# Altium schematic symbol library kmilo17pet-Maxim_Sensors.SchLib: 1172 symbols (part 42 of 61)
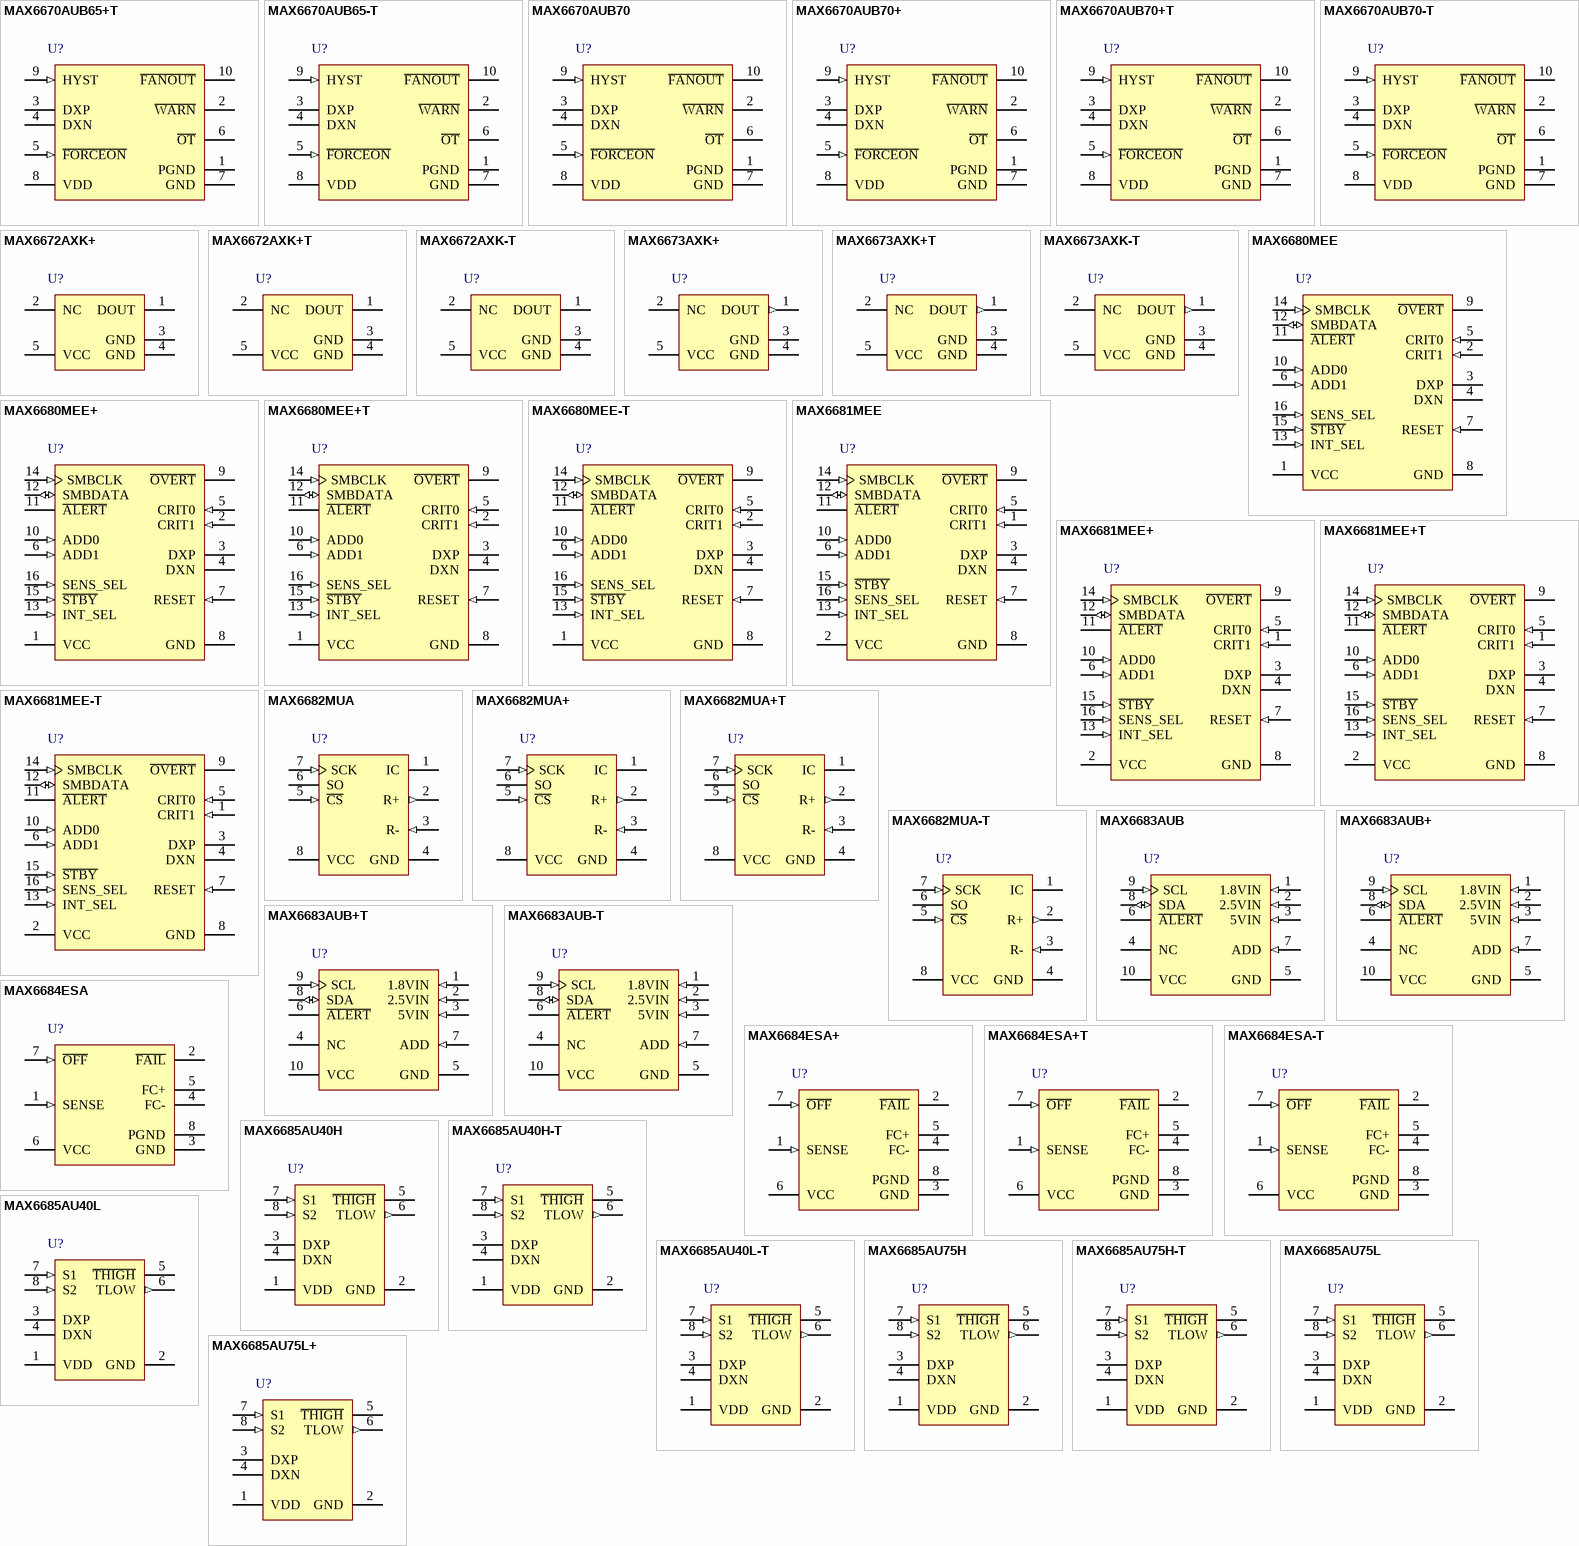
[diagram p74: symbols MAX6670AUB65+T to MAX6685AU75L+]

## MAX6683AUB-T
designator U?
Low Voltage Temperature Sensor and System Monitor, 11 Bits Temperature Resolution, -40 to 125 degC, 10-Pin SOP (U10-2), Tape and Reel; Generic Part Number: MAX6683; PartNumber: MAX6683AUB-T; Alarm Output: Alert; Functions: Voltage Monitor; Interface: 2-Wire/I2C/SMBus; Multi Droppable: Yes; Parasite Pwr.: No; DatasheetVersion: Rev. 1; PackageVersion: Rev. L, 07/2008; PackageReference: U10-2; PackageDescription: 10-Pin Micro-MAX, Thin Shrink Small-Outline (U10-2), Body 3 x 3 mm, Pitch 0.5 mm; Supplier 1: Mouser; Supplier Part Number 1: N/A; Packing: Tape and Reel; Mounting Technology: Surface Mount; Code_JEDEC: MO-187; ComponentLink1Description: Manufacturer URL; ComponentLink1URL: http://www.maximintegrated.com/; ComponentLink2Description: Datasheet; ComponentLink2URL: http://datasheets.maximintegrated.com/en/ds/MAX6683.pdf; ComponentLink3Description: Package Specification; ComponentLink3URL: http://pdfserv.maximintegrated.com/package_dwgs/21-0061.PDF
footprint MAXM-U10-2_N (SOP, 10-Leads, Body 3x3mm, Pitch 0.5mm, IPC Medium Density)
footprint MAXM-U10-2_L (SOP, 10-Leads, Body 3x3mm, Pitch 0.5mm, IPC High Density)
footprint MAXM-U10-2_M (SOP, 10-Leads, Body 3x3mm, Pitch 0.5mm, IPC Low Density)
pins: 1 1.8VIN (in) "Analog Input. Monitors 1.8V nominal supply.", 2 2.5VIN (in) "Analog Input. Monitors 2.5V nominal supply.", 3 5VIN (in) "Analog Input. Monitors 5V nominal supply.", 4 NC "No Connect. Not internally connected. Connect to GND to improve thermal conductivity.", 5 GND (power) "Ground", 6 ~{ALERT} (oc) "SMBus Alert (Interrupt) Output, Open Drain. Alerts the master that a temperature or voltage limit has been violated.", 7 ADD (in) "SMBus/I2C-Compatible Address Select Input. ADD is sampled at the beginning of each SMBus/I2C transaction, and the 2LSBs of the Slave Address register are detemined by ADD’s connection to GND, SDA, SCL, or VCC.", 8 SDA (io) "SMBus/I2C-Compatible Serial Data Interface", 9 SCL (in) "SMBus/I2C-Compatible Clock Input", 10 VCC (power) "Supply Voltage Input, +2.7V to +5.5V. Also serves as a voltage monitor input. Bypass VCC to GND with a 0.1uF capacitor."

## MAX6684ESA
designator U?
Fan Failure Detector with Integrated Power Switch, -40 to 85 degC, 8-Pin SOIC (S8-4); Generic Part Number: MAX6684; PartNumber: MAX6684ESA; Fan Cntrl.: Linear; Interface: Logic; DatasheetVersion: Rev. 0; PackageVersion: Rev. D, 10/2012; PackageReference: S8-4; PackageDescription: 8-Pin Small-Outline IC, Narrow, Body 3.9 x 4.9 mm, Pitch 1.27 mm; Supplier 1: Mouser; Supplier Part Number 1: N/A; Fan Controller Functions: Fan Failure Detector; Mounting Technology: Surface Mount; Code_JEDEC: MS-012; ComponentLink1Description: Manufacturer URL; ComponentLink1URL: http://www.maximintegrated.com/; ComponentLink2Description: Datasheet; ComponentLink2URL: http://datasheets.maximintegrated.com/en/ds/MAX6684.pdf; ComponentLink3Description: Package Specification; ComponentLink3URL: http://pdfserv.maximintegrated.com/package_dwgs/21-0041.PDF
footprint MAXM-S8-4_N (SOIC, 8-Leads, Body 4.9x3.9mm, Pitch 1.27mm, IPC Medium Density)
footprint MAXM-S8-4_L (SOIC, 8-Leads, Body 4.9x3.9mm, Pitch 1.27mm, IPC High Density)
footprint MAXM-S8-4_M (SOIC, 8-Leads, Body 4.9x3.9mm, Pitch 1.27mm, IPC Low Density)
pins: 1 SENSE (in) "Positive Current-Sensing Terminal. Connect SENSE to low side of fan.", 2 ~{FAIL} (oc) "Active-Low, Open-Drain Fan-Failure Output", 3 GND (power) "Ground", 4 FC- "Connect to 0.1uF capacitor for most locked-rotor detection applications. To detect minimum speed,select CF according to Minimum Speed and Locked-Rotor Detection.", 5 FC+ "Connect to 0.1uF capacitor for most locked-rotor detection applications. To detect minimum speed,select CF according to Minimum Speed and Locked-Rotor Detection.", 6 VCC (power) "Supply Voltage Input. Bypass VCC to GND with a 1uF capacitor.", 7 ~{OFF} (in) "Active- Low Fan- Control Input. Drive O\F\F\ high or leave floating to turn fan on. Drive O\F\F\ low to turn fan off.", 8 PGND (power) "Power Ground. Connect to GND."

## MAX6684ESA+
designator U?
Fan Failure Detector with Integrated Power Switch, -40 to 85 degC, 8-Pin SOIC (S8+4), Pb-Free; Generic Part Number: MAX6684; PartNumber: MAX6684ESA+; Fan Cntrl.: Linear; Interface: Logic; DatasheetVersion: Rev. 0; PackageVersion: Rev. D, 10/2012; PackageReference: S8+4; PackageDescription: 8-Pin Small-Outline IC, Narrow, Body 3.9 x 4.9 mm, Pitch 1.27 mm; Supplier 1: Digi-Key; Supplier Part Number 1: MAX6684ESA+-ND; Supplier 2: Mouser; Supplier Part Number 2: 700-MAX6684ESA; Fan Controller Functions: Fan Failure Detector; Mounting Technology: Surface Mount; Code_JEDEC: MS-012; ComponentLink1Description: Manufacturer URL; ComponentLink1URL: http://www.maximintegrated.com/; ComponentLink2Description: Datasheet; ComponentLink2URL: http://datasheets.maximintegrated.com/en/ds/MAX6684.pdf; ComponentLink3Description: Package Specification; ComponentLink3URL: http://pdfserv.maximintegrated.com/package_dwgs/21-0041.PDF
footprint MAXM-S8+4_N (SOIC, 8-Leads, Body 4.9x3.9mm, Pitch 1.27mm, IPC Medium Density)
footprint MAXM-S8+4_L (SOIC, 8-Leads, Body 4.9x3.9mm, Pitch 1.27mm, IPC High Density)
footprint MAXM-S8+4_M (SOIC, 8-Leads, Body 4.9x3.9mm, Pitch 1.27mm, IPC Low Density)
pins: 1 SENSE (in) "Positive Current-Sensing Terminal. Connect SENSE to low side of fan.", 2 ~{FAIL} (oc) "Active-Low, Open-Drain Fan-Failure Output", 3 GND (power) "Ground", 4 FC- "Connect to 0.1uF capacitor for most locked-rotor detection applications. To detect minimum speed,select CF according to Minimum Speed and Locked-Rotor Detection.", 5 FC+ "Connect to 0.1uF capacitor for most locked-rotor detection applications. To detect minimum speed,select CF according to Minimum Speed and Locked-Rotor Detection.", 6 VCC (power) "Supply Voltage Input. Bypass VCC to GND with a 1uF capacitor.", 7 ~{OFF} (in) "Active- Low Fan- Control Input. Drive O\F\F\ high or leave floating to turn fan on. Drive O\F\F\ low to turn fan off.", 8 PGND (power) "Power Ground. Connect to GND."

## MAX6684ESA+T
designator U?
Fan Failure Detector with Integrated Power Switch, -40 to 85 degC, 8-Pin SOIC (S8+4), Pb-Free, Tape and Reel; Generic Part Number: MAX6684; PartNumber: MAX6684ESA+T; Fan Cntrl.: Linear; Interface: Logic; DatasheetVersion: Rev. 0; PackageVersion: Rev. D, 10/2012; PackageReference: S8+4; PackageDescription: 8-Pin Small-Outline IC, Narrow, Body 3.9 x 4.9 mm, Pitch 1.27 mm; Supplier 1: Digi-Key; Supplier Part Number 1: MAX6684ESA+TTR-ND; Supplier 2: Digi-Key; Supplier Part Number 2: MAX6684ESA+TCT-ND; Supplier 3: Digi-Key; Supplier Part Number 3: MAX6684ESA+TDKR-ND; Supplier 4: Mouser; Supplier Part Number 4: 700-MAX6684ESAT; Fan Controller Functions: Fan Failure Detector; Packing: Tape and Reel; Mounting Technology: Surface Mount; Code_JEDEC: MS-012; ComponentLink1Description: Manufacturer URL; ComponentLink1URL: http://www.maximintegrated.com/; ComponentLink2Description: Datasheet; ComponentLink2URL: http://datasheets.maximintegrated.com/en/ds/MAX6684.pdf; ComponentLink3Description: Package Specification; ComponentLink3URL: http://pdfserv.maximintegrated.com/package_dwgs/21-0041.PDF
footprint MAXM-S8+4_N (SOIC, 8-Leads, Body 4.9x3.9mm, Pitch 1.27mm, IPC Medium Density)
footprint MAXM-S8+4_L (SOIC, 8-Leads, Body 4.9x3.9mm, Pitch 1.27mm, IPC High Density)
footprint MAXM-S8+4_M (SOIC, 8-Leads, Body 4.9x3.9mm, Pitch 1.27mm, IPC Low Density)
pins: 1 SENSE (in) "Positive Current-Sensing Terminal. Connect SENSE to low side of fan.", 2 ~{FAIL} (oc) "Active-Low, Open-Drain Fan-Failure Output", 3 GND (power) "Ground", 4 FC- "Connect to 0.1uF capacitor for most locked-rotor detection applications. To detect minimum speed,select CF according to Minimum Speed and Locked-Rotor Detection.", 5 FC+ "Connect to 0.1uF capacitor for most locked-rotor detection applications. To detect minimum speed,select CF according to Minimum Speed and Locked-Rotor Detection.", 6 VCC (power) "Supply Voltage Input. Bypass VCC to GND with a 1uF capacitor.", 7 ~{OFF} (in) "Active- Low Fan- Control Input. Drive O\F\F\ high or leave floating to turn fan on. Drive O\F\F\ low to turn fan off.", 8 PGND (power) "Power Ground. Connect to GND."

## MAX6684ESA-T
designator U?
Fan Failure Detector with Integrated Power Switch, -40 to 85 degC, 8-Pin SOIC (S8-4), Tape and Reel; Generic Part Number: MAX6684; PartNumber: MAX6684ESA-T; Fan Cntrl.: Linear; Interface: Logic; DatasheetVersion: Rev. 0; PackageVersion: Rev. D, 10/2012; PackageReference: S8-4; PackageDescription: 8-Pin Small-Outline IC, Narrow, Body 3.9 x 4.9 mm, Pitch 1.27 mm; Supplier 1: Mouser; Supplier Part Number 1: N/A; Fan Controller Functions: Fan Failure Detector; Packing: Tape and Reel; Mounting Technology: Surface Mount; Code_JEDEC: MS-012; ComponentLink1Description: Manufacturer URL; ComponentLink1URL: http://www.maximintegrated.com/; ComponentLink2Description: Datasheet; ComponentLink2URL: http://datasheets.maximintegrated.com/en/ds/MAX6684.pdf; ComponentLink3Description: Package Specification; ComponentLink3URL: http://pdfserv.maximintegrated.com/package_dwgs/21-0041.PDF
footprint MAXM-S8-4_N (SOIC, 8-Leads, Body 4.9x3.9mm, Pitch 1.27mm, IPC Medium Density)
footprint MAXM-S8-4_L (SOIC, 8-Leads, Body 4.9x3.9mm, Pitch 1.27mm, IPC High Density)
footprint MAXM-S8-4_M (SOIC, 8-Leads, Body 4.9x3.9mm, Pitch 1.27mm, IPC Low Density)
pins: 1 SENSE (in) "Positive Current-Sensing Terminal. Connect SENSE to low side of fan.", 2 ~{FAIL} (oc) "Active-Low, Open-Drain Fan-Failure Output", 3 GND (power) "Ground", 4 FC- "Connect to 0.1uF capacitor for most locked-rotor detection applications. To detect minimum speed,select CF according to Minimum Speed and Locked-Rotor Detection.", 5 FC+ "Connect to 0.1uF capacitor for most locked-rotor detection applications. To detect minimum speed,select CF according to Minimum Speed and Locked-Rotor Detection.", 6 VCC (power) "Supply Voltage Input. Bypass VCC to GND with a 1uF capacitor.", 7 ~{OFF} (in) "Active- Low Fan- Control Input. Drive O\F\F\ high or leave floating to turn fan on. Drive O\F\F\ low to turn fan off.", 8 PGND (power) "Power Ground. Connect to GND."

## MAX6685AU40H
designator U?
Dual-Output Remote-Junction Temperature Switch, -40 to 125 degC, 8-Pin SOP (U8-1); Generic Part Number: MAX6685; PartNumber: MAX6685AU40H; Functions: Dual Output Temperature Switch; Interface: Logic; DatasheetVersion: Rev. 2; PackageVersion: Rev. L, 08/2009; PackageReference: U8-1; PackageDescription: 8-Pin Micro-MAX, Thin Shrink Small-Outline (U8-1), Body 3 x 3 mm, Pitch 0.65mm; Supplier 1: Mouser; Supplier Part Number 1: N/A; Mounting Technology: Surface Mount; Code_JEDEC: MO-187; ComponentLink1Description: Manufacturer URL; ComponentLink1URL: http://www.maximintegrated.com/; ComponentLink2Description: Datasheet; ComponentLink2URL: http://datasheets.maximintegrated.com/en/ds/MAX6685; ComponentLink3Description: Package Specification; ComponentLink3URL: http://pdfserv.maximintegrated.com/package_dwgs/21-0036.PDF
footprint MAXM-U8-1_N (SOP, 8-Leads, Body 3x3mm, Pitch 0.65mm, IPC Medium Density)
footprint MAXM-U8-1_L (SOP, 8-Leads, Body 3x3mm, Pitch 0.65mm, IPC High Density)
footprint MAXM-U8-1_M (SOP, 8-Leads, Body 3x3mm, Pitch 0.65mm, IPC Low Density)
pins: 1 VDD (power) "Power-Supply Input. Bypass to GND with a 0.1uF capacitor.", 2 GND (power) "Ground", 3 DXP "This pin connects to the positive (anode) terminal of the external P-N sense junction. It sources current into the external junction. A 2200pF capacitor should be connected across DXP and DXN.", 4 DXN "This pin connects to the negative (cathode) terminal of the external P-N sense junction. It sinks current from the external junction. A 2200pF capacitor should be connected across DXP and DXN. DXN must be connected to the (See Datasheet)", 5 ~{THIGH} (oc) "Open-Drain, Active-Low Output. T\H\I\G\H\ goes low when the temperature exceeds the factoryprogrammed upper temperature threshold, either +120degreesC or +125degreesC. Connect a pullup resistor (typically 10k ohm) between (See Datasheet)", 6 TLOW (out) "CMOS Push-Pull, Active-High Output. TLOW goes HIGH when the temperature exceeds the pinprogrammed lower temperature threshold.", 7 S1 (in) "Threshold Select Input. Used in conjunction with S2 to set the lower threshold for TLOW (Table 1). It can be connected to VDD, GND, or left floating.", 8 S2 (in) "Threshold Select Input. Used in conjunction with S1 to set the lower threshold for TLOW (Table 1). It can be connected to VDD, GND, or left floating."

## MAX6685AU40H-T
designator U?
Dual-Output Remote-Junction Temperature Switch, -40 to 125 degC, 8-Pin SOP (U8-1), Tape and Reel; Generic Part Number: MAX6685; PartNumber: MAX6685AU40H-T; Functions: Dual Output Temperature Switch; Interface: Logic; DatasheetVersion: Rev. 2; PackageVersion: Rev. L, 08/2009; PackageReference: U8-1; PackageDescription: 8-Pin Micro-MAX, Thin Shrink Small-Outline (U8-1), Body 3 x 3 mm, Pitch 0.65mm; Supplier 1: Mouser; Supplier Part Number 1: N/A; Packing: Tape and Reel; Mounting Technology: Surface Mount; Code_JEDEC: MO-187; ComponentLink1Description: Manufacturer URL; ComponentLink1URL: http://www.maximintegrated.com/; ComponentLink2Description: Datasheet; ComponentLink2URL: http://datasheets.maximintegrated.com/en/ds/MAX6685; ComponentLink3Description: Package Specification; ComponentLink3URL: http://pdfserv.maximintegrated.com/package_dwgs/21-0036.PDF
footprint MAXM-U8-1_N (SOP, 8-Leads, Body 3x3mm, Pitch 0.65mm, IPC Medium Density)
footprint MAXM-U8-1_L (SOP, 8-Leads, Body 3x3mm, Pitch 0.65mm, IPC High Density)
footprint MAXM-U8-1_M (SOP, 8-Leads, Body 3x3mm, Pitch 0.65mm, IPC Low Density)
pins: 1 VDD (power) "Power-Supply Input. Bypass to GND with a 0.1uF capacitor.", 2 GND (power) "Ground", 3 DXP "This pin connects to the positive (anode) terminal of the external P-N sense junction. It sources current into the external junction. A 2200pF capacitor should be connected across DXP and DXN.", 4 DXN "This pin connects to the negative (cathode) terminal of the external P-N sense junction. It sinks current from the external junction. A 2200pF capacitor should be connected across DXP and DXN. DXN must be connected to the (See Datasheet)", 5 ~{THIGH} (oc) "Open-Drain, Active-Low Output. T\H\I\G\H\ goes low when the temperature exceeds the factoryprogrammed upper temperature threshold, either +120degreesC or +125degreesC. Connect a pullup resistor (typically 10k ohm) between (See Datasheet)", 6 TLOW (out) "CMOS Push-Pull, Active-High Output. TLOW goes HIGH when the temperature exceeds the pinprogrammed lower temperature threshold.", 7 S1 (in) "Threshold Select Input. Used in conjunction with S2 to set the lower threshold for TLOW (Table 1). It can be connected to VDD, GND, or left floating.", 8 S2 (in) "Threshold Select Input. Used in conjunction with S1 to set the lower threshold for TLOW (Table 1). It can be connected to VDD, GND, or left floating."

## MAX6685AU40L
designator U?
Dual-Output Remote-Junction Temperature Switch, -40 to 125 degC, 8-Pin SOP (U8-1); Generic Part Number: MAX6685; PartNumber: MAX6685AU40L; Functions: Dual Output Temperature Switch; Interface: Logic; DatasheetVersion: Rev. 2; PackageVersion: Rev. L, 08/2009; PackageReference: U8-1; PackageDescription: 8-Pin Micro-MAX, Thin Shrink Small-Outline (U8-1), Body 3 x 3 mm, Pitch 0.65mm; Supplier 1: Mouser; Supplier Part Number 1: N/A; Mounting Technology: Surface Mount; Code_JEDEC: MO-187; ComponentLink1Description: Manufacturer URL; ComponentLink1URL: http://www.maximintegrated.com/; ComponentLink2Description: Datasheet; ComponentLink2URL: http://datasheets.maximintegrated.com/en/ds/MAX6685; ComponentLink3Description: Package Specification; ComponentLink3URL: http://pdfserv.maximintegrated.com/package_dwgs/21-0036.PDF
footprint MAXM-U8-1_N (SOP, 8-Leads, Body 3x3mm, Pitch 0.65mm, IPC Medium Density)
footprint MAXM-U8-1_L (SOP, 8-Leads, Body 3x3mm, Pitch 0.65mm, IPC High Density)
footprint MAXM-U8-1_M (SOP, 8-Leads, Body 3x3mm, Pitch 0.65mm, IPC Low Density)
pins: 1 VDD (power) "Power-Supply Input. Bypass to GND with a 0.1uF capacitor.", 2 GND (power) "Ground", 3 DXP "This pin connects to the positive (anode) terminal of the external P-N sense junction. It sources current into the external junction. A 2200pF capacitor should be connected across DXP and DXN.", 4 DXN "This pin connects to the negative (cathode) terminal of the external P-N sense junction. It sinks current from the external junction. A 2200pF capacitor should be connected across DXP and DXN. DXN must be connected to the (See Datasheet)", 5 ~{THIGH} (oc) "Open-Drain, Active-Low Output. T\H\I\G\H\ goes low when the temperature exceeds the factoryprogrammed upper temperature threshold, either +120degreesC or +125degreesC. Connect a pullup resistor (typically 10k ohm) between (See Datasheet)", 6 TLOW (out) "CMOS Push-Pull, Active-High Output. TLOW goes HIGH when the temperature exceeds the pinprogrammed lower temperature threshold.", 7 S1 (in) "Threshold Select Input. Used in conjunction with S2 to set the lower threshold for TLOW (Table 1). It can be connected to VDD, GND, or left floating.", 8 S2 (in) "Threshold Select Input. Used in conjunction with S1 to set the lower threshold for TLOW (Table 1). It can be connected to VDD, GND, or left floating."

## MAX6685AU40L-T
designator U?
Dual-Output Remote-Junction Temperature Switch, -40 to 125 degC, 8-Pin SOP (U8-1), Tape and Reel; Generic Part Number: MAX6685; PartNumber: MAX6685AU40L-T; Functions: Dual Output Temperature Switch; Interface: Logic; DatasheetVersion: Rev. 2; PackageVersion: Rev. L, 08/2009; PackageReference: U8-1; PackageDescription: 8-Pin Micro-MAX, Thin Shrink Small-Outline (U8-1), Body 3 x 3 mm, Pitch 0.65mm; Supplier 1: Mouser; Supplier Part Number 1: N/A; Packing: Tape and Reel; Mounting Technology: Surface Mount; Code_JEDEC: MO-187; ComponentLink1Description: Manufacturer URL; ComponentLink1URL: http://www.maximintegrated.com/; ComponentLink2Description: Datasheet; ComponentLink2URL: http://datasheets.maximintegrated.com/en/ds/MAX6685; ComponentLink3Description: Package Specification; ComponentLink3URL: http://pdfserv.maximintegrated.com/package_dwgs/21-0036.PDF
footprint MAXM-U8-1_N (SOP, 8-Leads, Body 3x3mm, Pitch 0.65mm, IPC Medium Density)
footprint MAXM-U8-1_L (SOP, 8-Leads, Body 3x3mm, Pitch 0.65mm, IPC High Density)
footprint MAXM-U8-1_M (SOP, 8-Leads, Body 3x3mm, Pitch 0.65mm, IPC Low Density)
pins: 1 VDD (power) "Power-Supply Input. Bypass to GND with a 0.1uF capacitor.", 2 GND (power) "Ground", 3 DXP "This pin connects to the positive (anode) terminal of the external P-N sense junction. It sources current into the external junction. A 2200pF capacitor should be connected across DXP and DXN.", 4 DXN "This pin connects to the negative (cathode) terminal of the external P-N sense junction. It sinks current from the external junction. A 2200pF capacitor should be connected across DXP and DXN. DXN must be connected to the (See Datasheet)", 5 ~{THIGH} (oc) "Open-Drain, Active-Low Output. T\H\I\G\H\ goes low when the temperature exceeds the factoryprogrammed upper temperature threshold, either +120degreesC or +125degreesC. Connect a pullup resistor (typically 10k ohm) between (See Datasheet)", 6 TLOW (out) "CMOS Push-Pull, Active-High Output. TLOW goes HIGH when the temperature exceeds the pinprogrammed lower temperature threshold.", 7 S1 (in) "Threshold Select Input. Used in conjunction with S2 to set the lower threshold for TLOW (Table 1). It can be connected to VDD, GND, or left floating.", 8 S2 (in) "Threshold Select Input. Used in conjunction with S1 to set the lower threshold for TLOW (Table 1). It can be connected to VDD, GND, or left floating."

## MAX6685AU75H
designator U?
Dual-Output Remote-Junction Temperature Switch, -40 to 125 degC, 8-Pin SOP (U8-1); Generic Part Number: MAX6685; PartNumber: MAX6685AU75H; Functions: Dual Output Temperature Switch; Interface: Logic; DatasheetVersion: Rev. 2; PackageVersion: Rev. L, 08/2009; PackageReference: U8-1; PackageDescription: 8-Pin Micro-MAX, Thin Shrink Small-Outline (U8-1), Body 3 x 3 mm, Pitch 0.65mm; Supplier 1: Mouser; Supplier Part Number 1: N/A; Mounting Technology: Surface Mount; Code_JEDEC: MO-187; ComponentLink1Description: Manufacturer URL; ComponentLink1URL: http://www.maximintegrated.com/; ComponentLink2Description: Datasheet; ComponentLink2URL: http://datasheets.maximintegrated.com/en/ds/MAX6685; ComponentLink3Description: Package Specification; ComponentLink3URL: http://pdfserv.maximintegrated.com/package_dwgs/21-0036.PDF
footprint MAXM-U8-1_N (SOP, 8-Leads, Body 3x3mm, Pitch 0.65mm, IPC Medium Density)
footprint MAXM-U8-1_L (SOP, 8-Leads, Body 3x3mm, Pitch 0.65mm, IPC High Density)
footprint MAXM-U8-1_M (SOP, 8-Leads, Body 3x3mm, Pitch 0.65mm, IPC Low Density)
pins: 1 VDD (power) "Power-Supply Input. Bypass to GND with a 0.1uF capacitor.", 2 GND (power) "Ground", 3 DXP "This pin connects to the positive (anode) terminal of the external P-N sense junction. It sources current into the external junction. A 2200pF capacitor should be connected across DXP and DXN.", 4 DXN "This pin connects to the negative (cathode) terminal of the external P-N sense junction. It sinks current from the external junction. A 2200pF capacitor should be connected across DXP and DXN. DXN must be connected to the (See Datasheet)", 5 ~{THIGH} (oc) "Open-Drain, Active-Low Output. T\H\I\G\H\ goes low when the temperature exceeds the factoryprogrammed upper temperature threshold, either +120degreesC or +125degreesC. Connect a pullup resistor (typically 10k ohm) between (See Datasheet)", 6 TLOW (out) "CMOS Push-Pull, Active-High Output. TLOW goes HIGH when the temperature exceeds the pinprogrammed lower temperature threshold.", 7 S1 (in) "Threshold Select Input. Used in conjunction with S2 to set the lower threshold for TLOW (Table 1). It can be connected to VDD, GND, or left floating.", 8 S2 (in) "Threshold Select Input. Used in conjunction with S1 to set the lower threshold for TLOW (Table 1). It can be connected to VDD, GND, or left floating."

## MAX6685AU75H-T
designator U?
Dual-Output Remote-Junction Temperature Switch, -40 to 125 degC, 8-Pin SOP (U8-1), Tape and Reel; Generic Part Number: MAX6685; PartNumber: MAX6685AU75H-T; Functions: Dual Output Temperature Switch; Interface: Logic; DatasheetVersion: Rev. 2; PackageVersion: Rev. L, 08/2009; PackageReference: U8-1; PackageDescription: 8-Pin Micro-MAX, Thin Shrink Small-Outline (U8-1), Body 3 x 3 mm, Pitch 0.65mm; Supplier 1: Mouser; Supplier Part Number 1: N/A; Packing: Tape and Reel; Mounting Technology: Surface Mount; Code_JEDEC: MO-187; ComponentLink1Description: Manufacturer URL; ComponentLink1URL: http://www.maximintegrated.com/; ComponentLink2Description: Datasheet; ComponentLink2URL: http://datasheets.maximintegrated.com/en/ds/MAX6685; ComponentLink3Description: Package Specification; ComponentLink3URL: http://pdfserv.maximintegrated.com/package_dwgs/21-0036.PDF
footprint MAXM-U8-1_N (SOP, 8-Leads, Body 3x3mm, Pitch 0.65mm, IPC Medium Density)
footprint MAXM-U8-1_L (SOP, 8-Leads, Body 3x3mm, Pitch 0.65mm, IPC High Density)
footprint MAXM-U8-1_M (SOP, 8-Leads, Body 3x3mm, Pitch 0.65mm, IPC Low Density)
pins: 1 VDD (power) "Power-Supply Input. Bypass to GND with a 0.1uF capacitor.", 2 GND (power) "Ground", 3 DXP "This pin connects to the positive (anode) terminal of the external P-N sense junction. It sources current into the external junction. A 2200pF capacitor should be connected across DXP and DXN.", 4 DXN "This pin connects to the negative (cathode) terminal of the external P-N sense junction. It sinks current from the external junction. A 2200pF capacitor should be connected across DXP and DXN. DXN must be connected to the (See Datasheet)", 5 ~{THIGH} (oc) "Open-Drain, Active-Low Output. T\H\I\G\H\ goes low when the temperature exceeds the factoryprogrammed upper temperature threshold, either +120degreesC or +125degreesC. Connect a pullup resistor (typically 10k ohm) between (See Datasheet)", 6 TLOW (out) "CMOS Push-Pull, Active-High Output. TLOW goes HIGH when the temperature exceeds the pinprogrammed lower temperature threshold.", 7 S1 (in) "Threshold Select Input. Used in conjunction with S2 to set the lower threshold for TLOW (Table 1). It can be connected to VDD, GND, or left floating.", 8 S2 (in) "Threshold Select Input. Used in conjunction with S1 to set the lower threshold for TLOW (Table 1). It can be connected to VDD, GND, or left floating."

## MAX6685AU75L
designator U?
Dual-Output Remote-Junction Temperature Switch, -40 to 125 degC, 8-Pin SOP (U8-1); Generic Part Number: MAX6685; PartNumber: MAX6685AU75L; Functions: Dual Output Temperature Switch; Interface: Logic; DatasheetVersion: Rev. 2; PackageVersion: Rev. L, 08/2009; PackageReference: U8-1; PackageDescription: 8-Pin Micro-MAX, Thin Shrink Small-Outline (U8-1), Body 3 x 3 mm, Pitch 0.65mm; Supplier 1: Mouser; Supplier Part Number 1: N/A; Mounting Technology: Surface Mount; Code_JEDEC: MO-187; ComponentLink1Description: Manufacturer URL; ComponentLink1URL: http://www.maximintegrated.com/; ComponentLink2Description: Datasheet; ComponentLink2URL: http://datasheets.maximintegrated.com/en/ds/MAX6685; ComponentLink3Description: Package Specification; ComponentLink3URL: http://pdfserv.maximintegrated.com/package_dwgs/21-0036.PDF
footprint MAXM-U8-1_N (SOP, 8-Leads, Body 3x3mm, Pitch 0.65mm, IPC Medium Density)
footprint MAXM-U8-1_L (SOP, 8-Leads, Body 3x3mm, Pitch 0.65mm, IPC High Density)
footprint MAXM-U8-1_M (SOP, 8-Leads, Body 3x3mm, Pitch 0.65mm, IPC Low Density)
pins: 1 VDD (power) "Power-Supply Input. Bypass to GND with a 0.1uF capacitor.", 2 GND (power) "Ground", 3 DXP "This pin connects to the positive (anode) terminal of the external P-N sense junction. It sources current into the external junction. A 2200pF capacitor should be connected across DXP and DXN.", 4 DXN "This pin connects to the negative (cathode) terminal of the external P-N sense junction. It sinks current from the external junction. A 2200pF capacitor should be connected across DXP and DXN. DXN must be connected to the (See Datasheet)", 5 ~{THIGH} (oc) "Open-Drain, Active-Low Output. T\H\I\G\H\ goes low when the temperature exceeds the factoryprogrammed upper temperature threshold, either +120degreesC or +125degreesC. Connect a pullup resistor (typically 10k ohm) between (See Datasheet)", 6 TLOW (out) "CMOS Push-Pull, Active-High Output. TLOW goes HIGH when the temperature exceeds the pinprogrammed lower temperature threshold.", 7 S1 (in) "Threshold Select Input. Used in conjunction with S2 to set the lower threshold for TLOW (Table 1). It can be connected to VDD, GND, or left floating.", 8 S2 (in) "Threshold Select Input. Used in conjunction with S1 to set the lower threshold for TLOW (Table 1). It can be connected to VDD, GND, or left floating."

## MAX6685AU75L+
designator U?
Dual-Output Remote-Junction Temperature Switch, -40 to 125 degC, 8-Pin SOP (U8+1), Pb-Free; Generic Part Number: MAX6685; PartNumber: MAX6685AU75L+; Functions: Dual Output Temperature Switch; Interface: Logic; DatasheetVersion: Rev. 2; PackageVersion: Rev. L, 08/2009; PackageReference: U8+1; PackageDescription: 8-Pin Micro-MAX, Thin Shrink Small-Outline (U8+1), Body 3 x 3 mm, Pitch 0.65 mm; Supplier 1: Digi-Key; Supplier Part Number 1: MAX6685AU75L+-ND; Supplier 2: Mouser; Supplier Part Number 2: 700-MAX6685AU75L+; Mounting Technology: Surface Mount; Code_JEDEC: MO-187; ComponentLink1Description: Manufacturer URL; ComponentLink1URL: http://www.maximintegrated.com/; ComponentLink2Description: Datasheet; ComponentLink2URL: http://datasheets.maximintegrated.com/en/ds/MAX6685; ComponentLink3Description: Package Specification; ComponentLink3URL: http://pdfserv.maximintegrated.com/package_dwgs/21-0036.PDF
footprint MAXM-U8+1_N (SOP, 8-Leads, Body 3x3mm, Pitch 0.65mm, IPC Medium Density)
footprint MAXM-U8+1_L (SOP, 8-Leads, Body 3x3mm, Pitch 0.65mm, IPC High Density)
footprint MAXM-U8+1_M (SOP, 8-Leads, Body 3x3mm, Pitch 0.65mm, IPC Low Density)
pins: 1 VDD (power) "Power-Supply Input. Bypass to GND with a 0.1uF capacitor.", 2 GND (power) "Ground", 3 DXP "This pin connects to the positive (anode) terminal of the external P-N sense junction. It sources current into the external junction. A 2200pF capacitor should be connected across DXP and DXN.", 4 DXN "This pin connects to the negative (cathode) terminal of the external P-N sense junction. It sinks current from the external junction. A 2200pF capacitor should be connected across DXP and DXN. DXN must be connected to the (See Datasheet)", 5 ~{THIGH} (oc) "Open-Drain, Active-Low Output. T\H\I\G\H\ goes low when the temperature exceeds the factoryprogrammed upper temperature threshold, either +120degreesC or +125degreesC. Connect a pullup resistor (typically 10k ohm) between (See Datasheet)", 6 TLOW (out) "CMOS Push-Pull, Active-High Output. TLOW goes HIGH when the temperature exceeds the pinprogrammed lower temperature threshold.", 7 S1 (in) "Threshold Select Input. Used in conjunction with S2 to set the lower threshold for TLOW (Table 1). It can be connected to VDD, GND, or left floating.", 8 S2 (in) "Threshold Select Input. Used in conjunction with S1 to set the lower threshold for TLOW (Table 1). It can be connected to VDD, GND, or left floating."

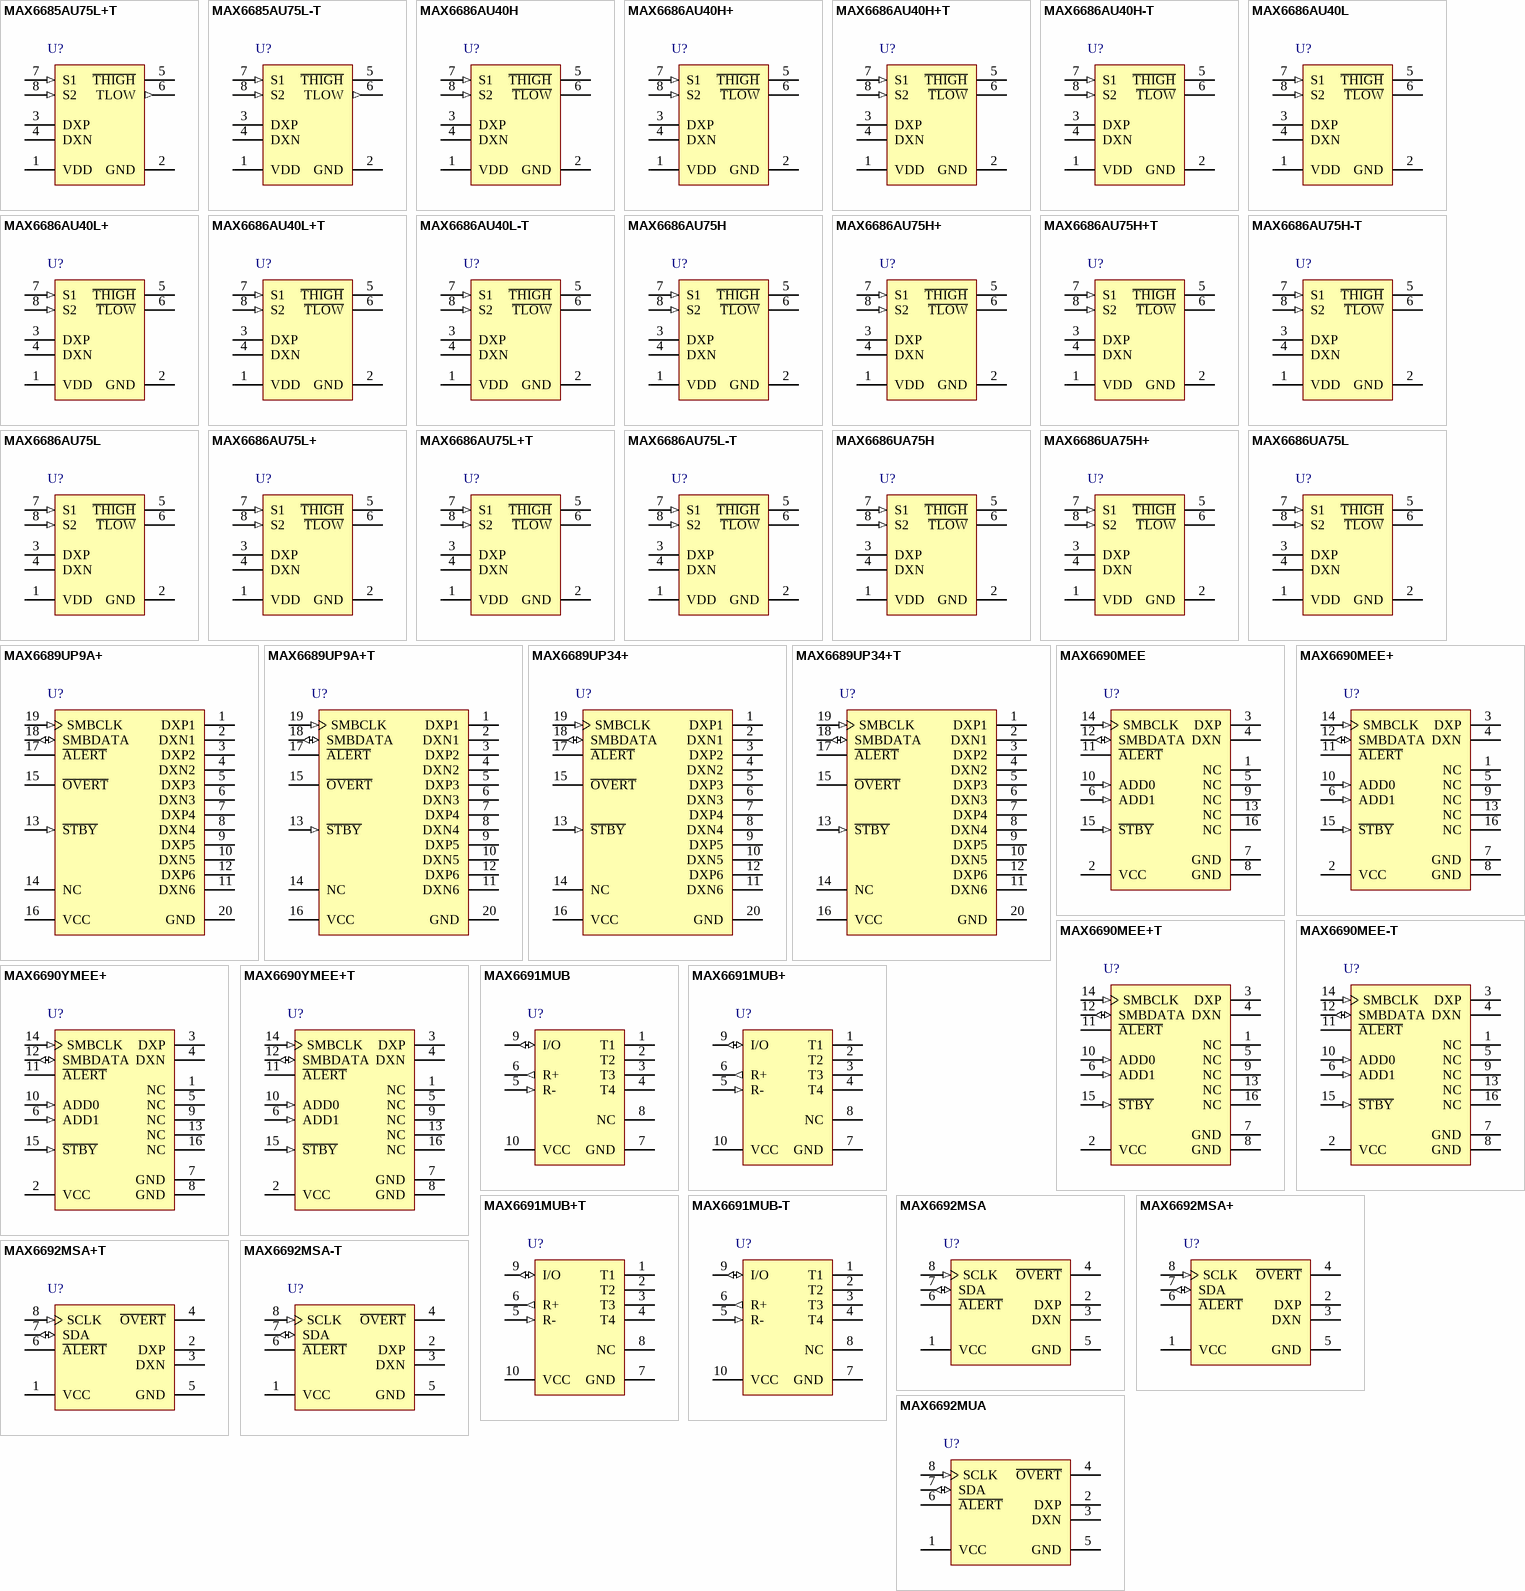
[diagram p24: symbols MAX6685AU75L+T to MAX6692MUA]

## MAX6685AU75L+T
designator U?
Dual-Output Remote-Junction Temperature Switch, -40 to 125 degC, 8-Pin SOP (U8+1), Pb-Free, Tape and Reel; Generic Part Number: MAX6685; PartNumber: MAX6685AU75L+T; Functions: Dual Output Temperature Switch; Interface: Logic; DatasheetVersion: Rev. 2; PackageVersion: Rev. L, 08/2009; PackageReference: U8+1; PackageDescription: 8-Pin Micro-MAX, Thin Shrink Small-Outline (U8+1), Body 3 x 3 mm, Pitch 0.65 mm; Supplier 1: Digi-Key; Supplier Part Number 1: MAX6685AU75L+T-ND; Supplier 2: Mouser; Supplier Part Number 2: 700-MAX6685AU75L+T; Packing: Tape and Reel; Mounting Technology: Surface Mount; Code_JEDEC: MO-187; ComponentLink1Description: Manufacturer URL; ComponentLink1URL: http://www.maximintegrated.com/; ComponentLink2Description: Datasheet; ComponentLink2URL: http://datasheets.maximintegrated.com/en/ds/MAX6685; ComponentLink3Description: Package Specification; ComponentLink3URL: http://pdfserv.maximintegrated.com/package_dwgs/21-0036.PDF
footprint MAXM-U8+1_N (SOP, 8-Leads, Body 3x3mm, Pitch 0.65mm, IPC Medium Density)
footprint MAXM-U8+1_L (SOP, 8-Leads, Body 3x3mm, Pitch 0.65mm, IPC High Density)
footprint MAXM-U8+1_M (SOP, 8-Leads, Body 3x3mm, Pitch 0.65mm, IPC Low Density)
pins: 1 VDD (power) "Power-Supply Input. Bypass to GND with a 0.1uF capacitor.", 2 GND (power) "Ground", 3 DXP "This pin connects to the positive (anode) terminal of the external P-N sense junction. It sources current into the external junction. A 2200pF capacitor should be connected across DXP and DXN.", 4 DXN "This pin connects to the negative (cathode) terminal of the external P-N sense junction. It sinks current from the external junction. A 2200pF capacitor should be connected across DXP and DXN. DXN must be connected to the (See Datasheet)", 5 ~{THIGH} (oc) "Open-Drain, Active-Low Output. T\H\I\G\H\ goes low when the temperature exceeds the factoryprogrammed upper temperature threshold, either +120degreesC or +125degreesC. Connect a pullup resistor (typically 10k ohm) between (See Datasheet)", 6 TLOW (out) "CMOS Push-Pull, Active-High Output. TLOW goes HIGH when the temperature exceeds the pinprogrammed lower temperature threshold.", 7 S1 (in) "Threshold Select Input. Used in conjunction with S2 to set the lower threshold for TLOW (Table 1). It can be connected to VDD, GND, or left floating.", 8 S2 (in) "Threshold Select Input. Used in conjunction with S1 to set the lower threshold for TLOW (Table 1). It can be connected to VDD, GND, or left floating."

## MAX6685AU75L-T
designator U?
Dual-Output Remote-Junction Temperature Switch, -40 to 125 degC, 8-Pin SOP (U8-1), Tape and Reel; Generic Part Number: MAX6685; PartNumber: MAX6685AU75L-T; Functions: Dual Output Temperature Switch; Interface: Logic; DatasheetVersion: Rev. 2; PackageVersion: Rev. L, 08/2009; PackageReference: U8-1; PackageDescription: 8-Pin Micro-MAX, Thin Shrink Small-Outline (U8-1), Body 3 x 3 mm, Pitch 0.65mm; Supplier 1: Mouser; Supplier Part Number 1: N/A; Packing: Tape and Reel; Mounting Technology: Surface Mount; Code_JEDEC: MO-187; ComponentLink1Description: Manufacturer URL; ComponentLink1URL: http://www.maximintegrated.com/; ComponentLink2Description: Datasheet; ComponentLink2URL: http://datasheets.maximintegrated.com/en/ds/MAX6685; ComponentLink3Description: Package Specification; ComponentLink3URL: http://pdfserv.maximintegrated.com/package_dwgs/21-0036.PDF
footprint MAXM-U8-1_N (SOP, 8-Leads, Body 3x3mm, Pitch 0.65mm, IPC Medium Density)
footprint MAXM-U8-1_L (SOP, 8-Leads, Body 3x3mm, Pitch 0.65mm, IPC High Density)
footprint MAXM-U8-1_M (SOP, 8-Leads, Body 3x3mm, Pitch 0.65mm, IPC Low Density)
pins: 1 VDD (power) "Power-Supply Input. Bypass to GND with a 0.1uF capacitor.", 2 GND (power) "Ground", 3 DXP "This pin connects to the positive (anode) terminal of the external P-N sense junction. It sources current into the external junction. A 2200pF capacitor should be connected across DXP and DXN.", 4 DXN "This pin connects to the negative (cathode) terminal of the external P-N sense junction. It sinks current from the external junction. A 2200pF capacitor should be connected across DXP and DXN. DXN must be connected to the (See Datasheet)", 5 ~{THIGH} (oc) "Open-Drain, Active-Low Output. T\H\I\G\H\ goes low when the temperature exceeds the factoryprogrammed upper temperature threshold, either +120degreesC or +125degreesC. Connect a pullup resistor (typically 10k ohm) between (See Datasheet)", 6 TLOW (out) "CMOS Push-Pull, Active-High Output. TLOW goes HIGH when the temperature exceeds the pinprogrammed lower temperature threshold.", 7 S1 (in) "Threshold Select Input. Used in conjunction with S2 to set the lower threshold for TLOW (Table 1). It can be connected to VDD, GND, or left floating.", 8 S2 (in) "Threshold Select Input. Used in conjunction with S1 to set the lower threshold for TLOW (Table 1). It can be connected to VDD, GND, or left floating."

## MAX6686AU40H
designator U?
Dual-Output Remote-Junction Temperature Switch, -40 to 125 degC, 8-Pin SOP (U8-1); Generic Part Number: MAX6686; PartNumber: MAX6686AU40H; Functions: Dual Output Temperature Switch; Interface: Logic; DatasheetVersion: Rev. 2; PackageVersion: Rev. L, 08/2009; PackageReference: U8-1; PackageDescription: 8-Pin Micro-MAX, Thin Shrink Small-Outline (U8-1), Body 3 x 3 mm, Pitch 0.65mm; Supplier 1: Mouser; Supplier Part Number 1: N/A; Mounting Technology: Surface Mount; Code_JEDEC: MO-187; ComponentLink1Description: Manufacturer URL; ComponentLink1URL: http://www.maximintegrated.com/; ComponentLink2Description: Datasheet; ComponentLink2URL: http://datasheets.maximintegrated.com/en/ds/MAX6686; ComponentLink3Description: Package Specification; ComponentLink3URL: http://pdfserv.maximintegrated.com/package_dwgs/21-0036.PDF
footprint MAXM-U8-1_N (SOP, 8-Leads, Body 3x3mm, Pitch 0.65mm, IPC Medium Density)
footprint MAXM-U8-1_L (SOP, 8-Leads, Body 3x3mm, Pitch 0.65mm, IPC High Density)
footprint MAXM-U8-1_M (SOP, 8-Leads, Body 3x3mm, Pitch 0.65mm, IPC Low Density)
pins: 1 VDD (power) "Power-Supply Input. Bypass to GND with a 0.1uF capacitor.", 2 GND (power) "Ground", 3 DXP "This pin connects to the positive (anode) terminal of the external P-N sense junction. It sources current into the external junction. A 2200pF capacitor should be connected across DXP and DXN.", 4 DXN "This pin connects to the negative (cathode) terminal of the external P-N sense junction. It sinks current from the external junction. A 2200pF capacitor should be connected across DXP and DXN. DXN must be connected to the (See Datasheet)", 5 ~{THIGH} (oc) "Open-Drain, Active-Low Output. T\H\I\G\H\ goes low when the temperature exceeds the factoryprogrammed upper temperature threshold, either +120degreesC or +125degreesC. Connect a pullup resistor (typically 10k ohm) between (See Datasheet)", 6 ~{TLOW} (oc) "Open-Drain, Active-Low Output. T\L\O\W\  goes LOW when the temperature exceeds the pinprogrammed lower temperature threshold. Connect a pullup resistor (typically 10k ohm) between T\L\O\W\ and a positive supply up to 5.5V", 7 S1 (in) "Threshold Select Input. Used in conjunction with S2 to set the lower threshold for TLOW (Table 1). It can be connected to VDD, GND, or left floating.", 8 S2 (in) "Threshold Select Input. Used in conjunction with S1 to set the lower threshold for TLOW (Table 1). It can be connected to VDD, GND, or left floating."

## MAX6686AU40H+
designator U?
Dual-Output Remote-Junction Temperature Switch, -40 to 125 degC, 8-Pin SOP (U8+1), Pb-Free; Generic Part Number: MAX6686; PartNumber: MAX6686AU40H+; Functions: Dual Output Temperature Switch; Interface: Logic; DatasheetVersion: Rev. 2; PackageVersion: Rev. L, 08/2009; PackageReference: U8+1; PackageDescription: 8-Pin Micro-MAX, Thin Shrink Small-Outline (U8+1), Body 3 x 3 mm, Pitch 0.65 mm; Supplier 1: Digi-Key; Supplier Part Number 1: MAX6686AU40H+-ND; Supplier 2: Mouser; Supplier Part Number 2: 700-MAX6686AU40H+; Mounting Technology: Surface Mount; Code_JEDEC: MO-187; ComponentLink1Description: Manufacturer URL; ComponentLink1URL: http://www.maximintegrated.com/; ComponentLink2Description: Datasheet; ComponentLink2URL: http://datasheets.maximintegrated.com/en/ds/MAX6686; ComponentLink3Description: Package Specification; ComponentLink3URL: http://pdfserv.maximintegrated.com/package_dwgs/21-0036.PDF
footprint MAXM-U8+1_N (SOP, 8-Leads, Body 3x3mm, Pitch 0.65mm, IPC Medium Density)
footprint MAXM-U8+1_L (SOP, 8-Leads, Body 3x3mm, Pitch 0.65mm, IPC High Density)
footprint MAXM-U8+1_M (SOP, 8-Leads, Body 3x3mm, Pitch 0.65mm, IPC Low Density)
pins: 1 VDD (power) "Power-Supply Input. Bypass to GND with a 0.1uF capacitor.", 2 GND (power) "Ground", 3 DXP "This pin connects to the positive (anode) terminal of the external P-N sense junction. It sources current into the external junction. A 2200pF capacitor should be connected across DXP and DXN.", 4 DXN "This pin connects to the negative (cathode) terminal of the external P-N sense junction. It sinks current from the external junction. A 2200pF capacitor should be connected across DXP and DXN. DXN must be connected to the (See Datasheet)", 5 ~{THIGH} (oc) "Open-Drain, Active-Low Output. T\H\I\G\H\ goes low when the temperature exceeds the factoryprogrammed upper temperature threshold, either +120degreesC or +125degreesC. Connect a pullup resistor (typically 10k ohm) between (See Datasheet)", 6 ~{TLOW} (oc) "Open-Drain, Active-Low Output. T\L\O\W\  goes LOW when the temperature exceeds the pinprogrammed lower temperature threshold. Connect a pullup resistor (typically 10k ohm) between T\L\O\W\ and a positive supply up to 5.5V", 7 S1 (in) "Threshold Select Input. Used in conjunction with S2 to set the lower threshold for TLOW (Table 1). It can be connected to VDD, GND, or left floating.", 8 S2 (in) "Threshold Select Input. Used in conjunction with S1 to set the lower threshold for TLOW (Table 1). It can be connected to VDD, GND, or left floating."

## MAX6686AU40H+T
designator U?
Dual-Output Remote-Junction Temperature Switch, -40 to 125 degC, 8-Pin SOP (U8+1), Pb-Free, Tape and Reel; Generic Part Number: MAX6686; PartNumber: MAX6686AU40H+T; Functions: Dual Output Temperature Switch; Interface: Logic; DatasheetVersion: Rev. 2; PackageVersion: Rev. L, 08/2009; PackageReference: U8+1; PackageDescription: 8-Pin Micro-MAX, Thin Shrink Small-Outline (U8+1), Body 3 x 3 mm, Pitch 0.65 mm; Supplier 1: Digi-Key; Supplier Part Number 1: MAX6686AU40H+T-ND; Supplier 2: Mouser; Supplier Part Number 2: 700-MAX6686AU40H+T; Packing: Tape and Reel; Mounting Technology: Surface Mount; Code_JEDEC: MO-187; ComponentLink1Description: Manufacturer URL; ComponentLink1URL: http://www.maximintegrated.com/; ComponentLink2Description: Datasheet; ComponentLink2URL: http://datasheets.maximintegrated.com/en/ds/MAX6686; ComponentLink3Description: Package Specification; ComponentLink3URL: http://pdfserv.maximintegrated.com/package_dwgs/21-0036.PDF
footprint MAXM-U8+1_N (SOP, 8-Leads, Body 3x3mm, Pitch 0.65mm, IPC Medium Density)
footprint MAXM-U8+1_L (SOP, 8-Leads, Body 3x3mm, Pitch 0.65mm, IPC High Density)
footprint MAXM-U8+1_M (SOP, 8-Leads, Body 3x3mm, Pitch 0.65mm, IPC Low Density)
pins: 1 VDD (power) "Power-Supply Input. Bypass to GND with a 0.1uF capacitor.", 2 GND (power) "Ground", 3 DXP "This pin connects to the positive (anode) terminal of the external P-N sense junction. It sources current into the external junction. A 2200pF capacitor should be connected across DXP and DXN.", 4 DXN "This pin connects to the negative (cathode) terminal of the external P-N sense junction. It sinks current from the external junction. A 2200pF capacitor should be connected across DXP and DXN. DXN must be connected to the (See Datasheet)", 5 ~{THIGH} (oc) "Open-Drain, Active-Low Output. T\H\I\G\H\ goes low when the temperature exceeds the factoryprogrammed upper temperature threshold, either +120degreesC or +125degreesC. Connect a pullup resistor (typically 10k ohm) between (See Datasheet)", 6 ~{TLOW} (oc) "Open-Drain, Active-Low Output. T\L\O\W\  goes LOW when the temperature exceeds the pinprogrammed lower temperature threshold. Connect a pullup resistor (typically 10k ohm) between T\L\O\W\ and a positive supply up to 5.5V", 7 S1 (in) "Threshold Select Input. Used in conjunction with S2 to set the lower threshold for TLOW (Table 1). It can be connected to VDD, GND, or left floating.", 8 S2 (in) "Threshold Select Input. Used in conjunction with S1 to set the lower threshold for TLOW (Table 1). It can be connected to VDD, GND, or left floating."

## MAX6686AU40H-T
designator U?
Dual-Output Remote-Junction Temperature Switch, -40 to 125 degC, 8-Pin SOP (U8-1), Tape and Reel; Generic Part Number: MAX6686; PartNumber: MAX6686AU40H-T; Functions: Dual Output Temperature Switch; Interface: Logic; DatasheetVersion: Rev. 2; PackageVersion: Rev. L, 08/2009; PackageReference: U8-1; PackageDescription: 8-Pin Micro-MAX, Thin Shrink Small-Outline (U8-1), Body 3 x 3 mm, Pitch 0.65mm; Supplier 1: Mouser; Supplier Part Number 1: N/A; Packing: Tape and Reel; Mounting Technology: Surface Mount; Code_JEDEC: MO-187; ComponentLink1Description: Manufacturer URL; ComponentLink1URL: http://www.maximintegrated.com/; ComponentLink2Description: Datasheet; ComponentLink2URL: http://datasheets.maximintegrated.com/en/ds/MAX6686; ComponentLink3Description: Package Specification; ComponentLink3URL: http://pdfserv.maximintegrated.com/package_dwgs/21-0036.PDF
footprint MAXM-U8-1_N (SOP, 8-Leads, Body 3x3mm, Pitch 0.65mm, IPC Medium Density)
footprint MAXM-U8-1_L (SOP, 8-Leads, Body 3x3mm, Pitch 0.65mm, IPC High Density)
footprint MAXM-U8-1_M (SOP, 8-Leads, Body 3x3mm, Pitch 0.65mm, IPC Low Density)
pins: 1 VDD (power) "Power-Supply Input. Bypass to GND with a 0.1uF capacitor.", 2 GND (power) "Ground", 3 DXP "This pin connects to the positive (anode) terminal of the external P-N sense junction. It sources current into the external junction. A 2200pF capacitor should be connected across DXP and DXN.", 4 DXN "This pin connects to the negative (cathode) terminal of the external P-N sense junction. It sinks current from the external junction. A 2200pF capacitor should be connected across DXP and DXN. DXN must be connected to the (See Datasheet)", 5 ~{THIGH} (oc) "Open-Drain, Active-Low Output. T\H\I\G\H\ goes low when the temperature exceeds the factoryprogrammed upper temperature threshold, either +120degreesC or +125degreesC. Connect a pullup resistor (typically 10k ohm) between (See Datasheet)", 6 ~{TLOW} (oc) "Open-Drain, Active-Low Output. T\L\O\W\  goes LOW when the temperature exceeds the pinprogrammed lower temperature threshold. Connect a pullup resistor (typically 10k ohm) between T\L\O\W\ and a positive supply up to 5.5V", 7 S1 (in) "Threshold Select Input. Used in conjunction with S2 to set the lower threshold for TLOW (Table 1). It can be connected to VDD, GND, or left floating.", 8 S2 (in) "Threshold Select Input. Used in conjunction with S1 to set the lower threshold for TLOW (Table 1). It can be connected to VDD, GND, or left floating."

## MAX6686AU40L
designator U?
Dual-Output Remote-Junction Temperature Switch, -40 to 125 degC, 8-Pin SOP (U8-1); Generic Part Number: MAX6686; PartNumber: MAX6686AU40L; Functions: Dual Output Temperature Switch; Interface: Logic; DatasheetVersion: Rev. 2; PackageVersion: Rev. L, 08/2009; PackageReference: U8-1; PackageDescription: 8-Pin Micro-MAX, Thin Shrink Small-Outline (U8-1), Body 3 x 3 mm, Pitch 0.65mm; Supplier 1: Mouser; Supplier Part Number 1: N/A; Mounting Technology: Surface Mount; Code_JEDEC: MO-187; ComponentLink1Description: Manufacturer URL; ComponentLink1URL: http://www.maximintegrated.com/; ComponentLink2Description: Datasheet; ComponentLink2URL: http://datasheets.maximintegrated.com/en/ds/MAX6686; ComponentLink3Description: Package Specification; ComponentLink3URL: http://pdfserv.maximintegrated.com/package_dwgs/21-0036.PDF
footprint MAXM-U8-1_N (SOP, 8-Leads, Body 3x3mm, Pitch 0.65mm, IPC Medium Density)
footprint MAXM-U8-1_L (SOP, 8-Leads, Body 3x3mm, Pitch 0.65mm, IPC High Density)
footprint MAXM-U8-1_M (SOP, 8-Leads, Body 3x3mm, Pitch 0.65mm, IPC Low Density)
pins: 1 VDD (power) "Power-Supply Input. Bypass to GND with a 0.1uF capacitor.", 2 GND (power) "Ground", 3 DXP "This pin connects to the positive (anode) terminal of the external P-N sense junction. It sources current into the external junction. A 2200pF capacitor should be connected across DXP and DXN.", 4 DXN "This pin connects to the negative (cathode) terminal of the external P-N sense junction. It sinks current from the external junction. A 2200pF capacitor should be connected across DXP and DXN. DXN must be connected to the (See Datasheet)", 5 ~{THIGH} (oc) "Open-Drain, Active-Low Output. T\H\I\G\H\ goes low when the temperature exceeds the factoryprogrammed upper temperature threshold, either +120degreesC or +125degreesC. Connect a pullup resistor (typically 10k ohm) between (See Datasheet)", 6 ~{TLOW} (oc) "Open-Drain, Active-Low Output. T\L\O\W\  goes LOW when the temperature exceeds the pinprogrammed lower temperature threshold. Connect a pullup resistor (typically 10k ohm) between T\L\O\W\ and a positive supply up to 5.5V", 7 S1 (in) "Threshold Select Input. Used in conjunction with S2 to set the lower threshold for TLOW (Table 1). It can be connected to VDD, GND, or left floating.", 8 S2 (in) "Threshold Select Input. Used in conjunction with S1 to set the lower threshold for TLOW (Table 1). It can be connected to VDD, GND, or left floating."

## MAX6686AU40L+
designator U?
Dual-Output Remote-Junction Temperature Switch, -40 to 125 degC, 8-Pin SOP (U8+1), Pb-Free; Generic Part Number: MAX6686; PartNumber: MAX6686AU40L+; Functions: Dual Output Temperature Switch; Interface: Logic; DatasheetVersion: Rev. 2; PackageVersion: Rev. L, 08/2009; PackageReference: U8+1; PackageDescription: 8-Pin Micro-MAX, Thin Shrink Small-Outline (U8+1), Body 3 x 3 mm, Pitch 0.65 mm; Supplier 1: Digi-Key; Supplier Part Number 1: MAX6686AU40L+-ND; Supplier 2: Mouser; Supplier Part Number 2: 700-MAX6686AU40L+; Mounting Technology: Surface Mount; Code_JEDEC: MO-187; ComponentLink1Description: Manufacturer URL; ComponentLink1URL: http://www.maximintegrated.com/; ComponentLink2Description: Datasheet; ComponentLink2URL: http://datasheets.maximintegrated.com/en/ds/MAX6686; ComponentLink3Description: Package Specification; ComponentLink3URL: http://pdfserv.maximintegrated.com/package_dwgs/21-0036.PDF
footprint MAXM-U8+1_N (SOP, 8-Leads, Body 3x3mm, Pitch 0.65mm, IPC Medium Density)
footprint MAXM-U8+1_L (SOP, 8-Leads, Body 3x3mm, Pitch 0.65mm, IPC High Density)
footprint MAXM-U8+1_M (SOP, 8-Leads, Body 3x3mm, Pitch 0.65mm, IPC Low Density)
pins: 1 VDD (power) "Power-Supply Input. Bypass to GND with a 0.1uF capacitor.", 2 GND (power) "Ground", 3 DXP "This pin connects to the positive (anode) terminal of the external P-N sense junction. It sources current into the external junction. A 2200pF capacitor should be connected across DXP and DXN.", 4 DXN "This pin connects to the negative (cathode) terminal of the external P-N sense junction. It sinks current from the external junction. A 2200pF capacitor should be connected across DXP and DXN. DXN must be connected to the (See Datasheet)", 5 ~{THIGH} (oc) "Open-Drain, Active-Low Output. T\H\I\G\H\ goes low when the temperature exceeds the factoryprogrammed upper temperature threshold, either +120degreesC or +125degreesC. Connect a pullup resistor (typically 10k ohm) between (See Datasheet)", 6 ~{TLOW} (oc) "Open-Drain, Active-Low Output. T\L\O\W\  goes LOW when the temperature exceeds the pinprogrammed lower temperature threshold. Connect a pullup resistor (typically 10k ohm) between T\L\O\W\ and a positive supply up to 5.5V", 7 S1 (in) "Threshold Select Input. Used in conjunction with S2 to set the lower threshold for TLOW (Table 1). It can be connected to VDD, GND, or left floating.", 8 S2 (in) "Threshold Select Input. Used in conjunction with S1 to set the lower threshold for TLOW (Table 1). It can be connected to VDD, GND, or left floating."